# Altium integrated library LED_0603.IntLib: 1 symbol
Pins are listed as number, name and electrical type; pins without a type are passive.

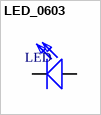
[diagram p0: symbol LED_0603]

## LED_0603
designator LED  (value not drawn)
footprint LED_0603
pins: 1 K, 2 A